# Altium footprint library steve.PcbLib: 16 footprints
Each footprint in its own frame and in the unit in brackets; x right, y up, seen from the top. Pads: shape width x height; smd on the part's side, far side on the other; paste and mask are expansions set on the pad; w line width, h text height; cw(c..) or ccw(c..) is an arc to the next point about the centre after c.
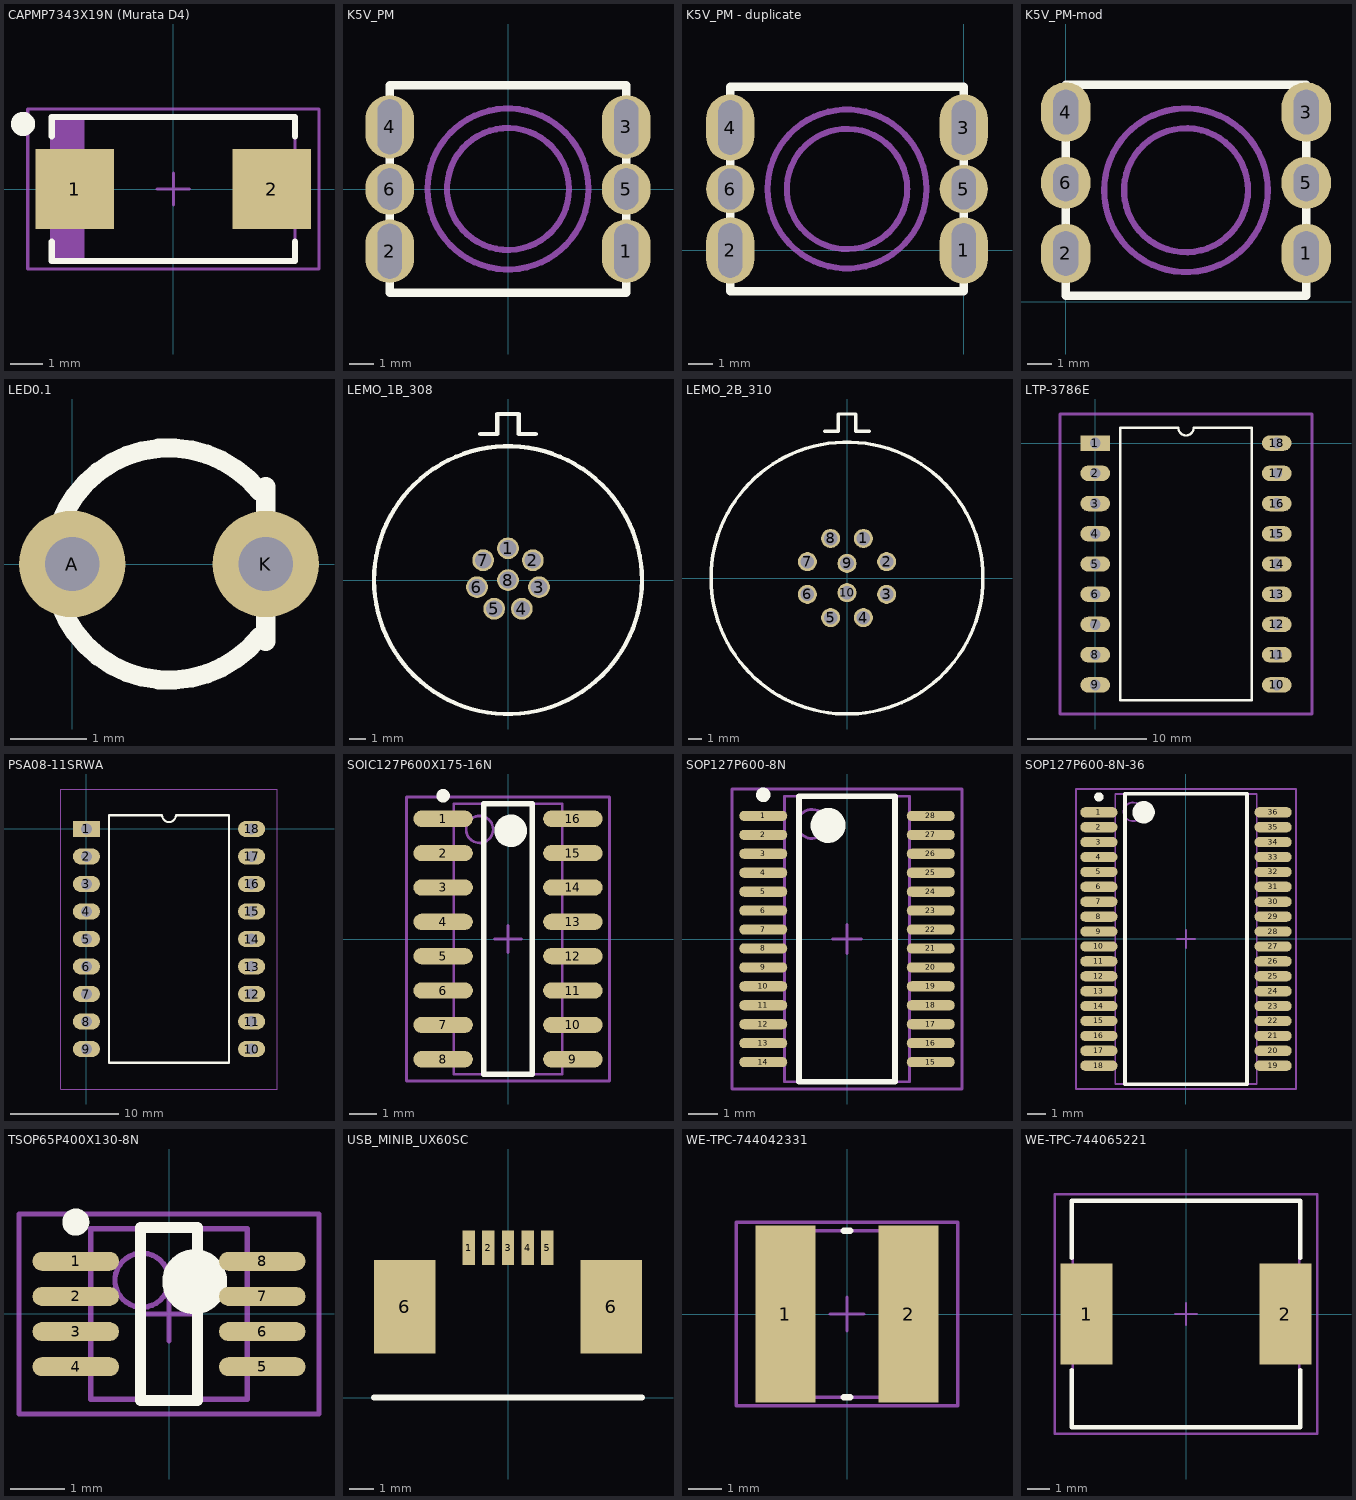
[diagram p0: the footprints below, top view; thin cyan lines are the x and y axes]

## CAPMP7343X19N (Murata D4) [mm] "Molded Capacitor, 2-Leads, Body 7.3x4.3mm, IPC Medium Density"
height 1.9
pads (2):
  rect 2.45x2.5 smd: 1(-3.075,0) 2(3.075,0)
Top Overlay:
  circle w0.5: c-4.697,2.032 r0.125
  lines w0.2: -3.8,-1.65 -3.8,-2.25 3.8,-2.25 3.8,-1.65 ; -3.8,1.65 -3.8,2.25 3.8,2.25 3.8,1.65
Mechanical 13:
  rectangle: -3.8,-2.25 -2.778,2.25
  lines w0.1: -3.8,-2.25 3.8,-2.25 3.8,2.25 -3.8,2.25 -3.8,-2.25
Mechanical 15:
  lines w0.1: -0.5,0 0.5,0 ; 0,-0.5 0,0.5 ; -4.55,-2.5 4.55,-2.5 4.55,2.5 -4.55,2.5 -4.55,-2.5
3D body: height 1.9, standoff 0, extent -3.8,-2.25 3.8,2.25

## K5V_PM [mm] "K5V Illuminated Tactile Switch - Panel Mount"
pads (6):
  oval 2x2.6 hole 1 slot 2.26 at 90 deg: 1(4.85,-2.55) 2(-4.85,-2.55) 3(4.85,2.55) 4(-4.85,2.55)
  oval 2x2.1 hole 1 slot 1.7 at 90 deg: 5(4.85,0) 6(-4.85,0)
Top Overlay:
  lines w0.35: -4.85,-4.25 -4.85,4.25 4.85,4.25 4.85,-4.25 -4.85,-4.25
Mechanical 1:
  circle w0.254: c0,0 r3.3
  circle w0.254: c0,0 r2.5
3D body: height 13.35, standoff 9.35, extent -2.512,-2.512 2.512,2.512
3D body: height 6.4, standoff 0, extent -4.849,-4.249 4.849,4.249
3D body: height 9.35, standoff 6.4, extent -3.31,-3.31 3.31,3.31

## K5V_PM - duplicate [mm] "K5V Illuminated Tactile Switch - Panel Mount"
pads (6):
  oval 2x2.76 hole 1 slot 2.26 at 90 deg: 1(0,0) 2(-9.7,0) 3(0,5.1) 4(-9.7,5.1)
  round 2 hole 1 slot 1.7 at 90 deg: 5(0,2.55) 6(-9.7,2.55)
Top Overlay:
  lines w0.35: -9.7,-1.7 0,-1.7 0,6.8 -9.7,6.8 -9.7,-1.7
Mechanical 1:
  circle w0.254: c-4.85,2.55 r2.5
  circle w0.254: c-4.85,2.55 r3.3
3D body: height 9.35, standoff 6.4, extent -8.16,-0.76 -1.54,5.86
3D body: height 6.4, standoff 0, extent -9.699,-1.699 -0.001,6.799
3D body: height 13.35, standoff 9.35, extent -7.362,0.038 -2.338,5.062

## K5V_PM-mod [mm] "K5V Illuminated Tactile Switch - Panel Mount"
pads (6):
  oval 2x2.4 hole 1 slot 1.8 at 90 deg: 1(9.699,1.953) 2(-0.001,1.953) 3(9.699,7.653) 4(-0.001,7.653)
  oval 2x2.1 hole 1 slot 1.5 at 90 deg: 5(9.699,4.803) 6(-0.001,4.803)
Top Overlay:
  lines w0.35: -0.001,0.253 9.699,0.253 9.699,8.753 -0.001,8.753 -0.001,0.253
Mechanical 1:
  circle w0.254: c4.849,4.503 r2.5
  circle w0.254: c4.849,4.503 r3.3
3D body: height 9.35, standoff 6.4, extent 1.54,1.194 8.159,7.813
3D body: height 6.4, standoff 0, extent 0,0.254 9.699,8.753
3D body: height 13.35, standoff 9.35, extent 2.338,1.992 7.361,7.015

## LED0.1 [mil]
pads (2):
  round 55 hole 28: A(0,0) K(100,0)
Top Overlay:
  lines w10: 96.85,-37.48 cw(c50,0) 96.85,37.48 ; 100,-40 100,40
3D body: height 364.17, standoff -905.51, extent -10.16,-77.86 128.42,79.48

## LEMO_1B_308 [mm]
pads (8):
  round 1.3 hole 1: 1(0,1.9) 2(1.485,1.185) 3(1.852,-0.423) 4(0.824,-1.712) 5(-0.824,-1.712) 6(-1.852,-0.423) 7(-1.485,1.185) 8(0,0)
Top Overlay:
  circle w0.254: c0,0 r8
  lines w0.254: -1.651,8.726 -0.635,8.726 -0.635,9.922 0.635,9.922 0.635,8.726 1.651,8.726
Bottom Overlay:
  circle w0.254: c0,0 r8
  lines w0.254: -1.651,8.735 -0.635,8.735 -0.635,9.922 0.635,9.922 0.635,8.723 1.651,8.723
3D body: height 21, standoff -2, extent -7.937,-7.937 7.937,7.937

## LEMO_2B_310 [mm]
pads (10):
  round 1.4 hole 1: 1(1.205,2.91) 2(2.91,1.205) 3(2.91,-1.205) 4(1.205,-2.91) 5(-1.205,-2.91) 6(-2.91,-1.205) 7(-2.91,1.205) 8(-1.205,2.91) 9(0,1.075) 10(0,-1.075)
Top Overlay:
  circle w0.254: c0,0 r10
  lines w0.254: -1.651,10.795 -0.635,10.795 -0.635,12.065 0.635,12.065 0.635,10.795 1.651,10.795
Bottom Overlay:
  circle w0.254: c0,0 r10
  lines w0.254: -1.651,10.795 -0.635,10.795 -0.635,12.065 0.635,12.065 0.635,10.795 1.651,10.795
3D body: height 21.5, standoff -3.3, extent -10,-9.921 10,9.922

## LTP-3786E [mm]
pads (18):
  rect 2.5x1.3 hole 0.9: 1(0,0)
  oval 2.5x1.3 hole 0.9: 2(0,-2.54) 3(0,-5.08) 4(0,-7.62) 5(0,-10.16) 6(0,-12.7) 7(0,-15.24) 8(0,-17.78) 9(0,-20.32) 10(15.24,-20.32) 11(15.24,-17.78) 12(15.24,-15.24) 13(15.24,-12.7) 14(15.24,-10.16) 15(15.24,-7.62) 16(15.24,-5.08) 17(15.24,-2.54) 18(15.24,0)
Top Overlay:
  lines w0.2: 2.085,-21.59 2.085,1.27 6.985,1.27 ccw(c7.62,1.27) 8.255,1.27 13.155,1.27 13.155,-21.59 2.085,-21.59
Mechanical 13:
  lines w0.254: -2.955,-22.76 18.195,-22.76 18.195,2.44 -2.955,2.44 -2.955,-22.76
3D body: height 8.03, standoff -3.97, extent -1.905,-22.86 17.145,-10.16
3D body: height 8.03, standoff -3.97, extent -1.905,-10.16 17.145,2.54

## PSA08-11SRWA [mm]
pads (18):
  rect 2.5x1.5 hole 1: 1(0,0)
  oval 2.5x1.5 hole 1: 2(0,-2.54) 3(0,-5.08) 4(0,-7.62) 5(0,-10.16) 6(0,-12.7) 7(0,-15.24) 8(0,-17.78) 9(0,-20.32) 10(15.24,-20.32) 11(15.24,-17.78) 12(15.24,-15.24) 13(15.24,-12.7) 14(15.24,-10.16) 15(15.24,-7.62) 16(15.24,-5.08) 17(15.24,-2.54) 18(15.24,0)
Top Overlay:
  lines w0.2: 2.085,-21.59 2.085,1.27 6.985,1.27 ccw(c7.62,1.27) 8.255,1.27 13.155,1.27 13.155,-21.59 2.085,-21.59
Mechanical 13:
  lines w0.1: -2.38,-24.01 17.62,-24.01 17.62,3.69 -2.38,3.69 -2.38,-24.01
3D body: height 8.5, standoff 0, extent -2.379,-24.009 17.619,3.689

## SOIC127P600X175-16N [mm] "SOIC, 16-Leads, Body 10.0x4.0mm (max), Pitch 1.27mm, IPC Medium Density"
height 1.75
pads (16):
  oval 2.2x0.6 smd: 1(-2.4,4.445) 2(-2.4,3.175) 3(-2.4,1.905) 4(-2.4,0.635) 5(-2.4,-0.635) 6(-2.4,-1.905) 7(-2.4,-3.175) 8(-2.4,-4.445) 9(2.4,-4.445) 10(2.4,-3.175) 11(2.4,-1.905) 12(2.4,-0.635) 13(2.4,0.635) 14(2.4,1.905) 15(2.4,3.175) 16(2.4,4.445)
Top Overlay:
  circle w0.6: c0.1,4 r0.3
  circle w0.25: c-2.4,5.295 r0.125
  lines w0.2: -0.9,-5 0.9,-5 0.9,5 -0.9,5 -0.9,-5
Mechanical 13:
  circle w0.1: c-1.05,4.05 r0.5
  lines w0.1: -2,-5 2,-5 2,5 -2,5 -2,-5
Mechanical 15:
  lines w0.1: -0.5,0 0.5,0 ; 0,-0.5 0,0.5 ; -3.75,-5.25 3.75,-5.25 3.75,5.25 -3.75,5.25 -3.75,-5.25
3D body: height 1.75, standoff 0.1, extent -2,-5 2,5

## SOP127P600-8N [mm] "Footprint for TLC59116"
height 1.2
pads (28):
  oval 1.65x0.35 smd: 1(-2.875,4.225) 2(-2.875,3.575) 3(-2.875,2.925) 4(-2.875,2.275) 5(-2.875,1.625) 6(-2.875,0.975) 7(-2.875,0.325) 8(-2.875,-0.325) 9(-2.875,-0.975) 10(-2.875,-1.625) 11(-2.875,-2.275) 12(-2.875,-2.925) 13(-2.875,-3.575) 14(-2.875,-4.225) 15(2.875,-4.225) 16(2.875,-3.575) 17(2.875,-2.925) 18(2.875,-2.275) 19(2.875,-1.625) 20(2.875,-0.975) 21(2.875,-0.325) 22(2.875,0.325) 23(2.875,0.975) 24(2.875,1.625) 25(2.875,2.275) 26(2.875,2.925) 27(2.875,3.575) 28(2.875,4.225)
Top Overlay:
  circle w0.6: c-0.65,3.9 r0.3
  circle w0.25: c-2.875,4.95 r0.125
  lines w0.2: -1.65,-4.9 1.65,-4.9 1.65,4.9 -1.65,4.9 -1.65,-4.9
Mechanical 13:
  circle w0.1: c-1.2,3.95 r0.5
  lines w0.1: -2.15,-4.9 2.15,-4.9 2.15,4.9 -2.15,4.9 -2.15,-4.9
Mechanical 15:
  lines w0.1: -0.5,0 0.5,0 ; 0,-0.5 0,0.5 ; -3.95,-5.15 3.95,-5.15 3.95,5.15 -3.95,5.15 -3.95,-5.15
3D body: height 1.2, standoff 0.15, extent -2.15,-4.9 2.15,4.9

## SOP127P600-8N-36 [mm] "Maxim 36L SSOP, 0.80mm pitch (for MAX6955)"
height 2.64
pads (36):
  oval 2x0.55 smd: 1(-4.675,6.8) 2(-4.675,6) 3(-4.675,5.2) 4(-4.675,4.4) 5(-4.675,3.6) 6(-4.675,2.8) 7(-4.675,2) 8(-4.675,1.2) 9(-4.675,0.4) 10(-4.675,-0.4) 11(-4.675,-1.2) 12(-4.675,-2) 13(-4.675,-2.8) 14(-4.675,-3.6) 15(-4.675,-4.4) 16(-4.675,-5.2) 17(-4.675,-6) 18(-4.675,-6.8) 19(4.675,-6.8) 20(4.675,-6) 21(4.675,-5.2) 22(4.675,-4.4) 23(4.675,-3.6) 24(4.675,-2.8) 25(4.675,-2) 26(4.675,-1.2) 27(4.675,-0.4) 28(4.675,0.4) 29(4.675,1.2) 30(4.675,2) 31(4.675,2.8) 32(4.675,3.6) 33(4.675,4.4) 34(4.675,5.2) 35(4.675,6) 36(4.675,6.8)
Top Overlay:
  circle w0.25: c-4.675,7.625 r0.125
  circle w0.6: c-2.275,6.8 r0.3
  lines w0.2: -3.275,-7.8 -3.275,7.8 3.275,7.8 3.275,-7.8 -3.275,-7.8
Mechanical 13:
  circle w0.1: c-2.85,6.825 r0.5
  lines w0.1: -3.8,-7.775 -3.8,7.775 3.8,7.775 3.8,-7.775 -3.8,-7.775
Mechanical 15:
  lines w0.1: -0.5,0 0.5,0 ; 0,-0.5 0,0.5 ; -5.9,-8.05 -5.9,8.05 5.9,8.05 5.9,-8.05 -5.9,-8.05
3D body: height 2.64, standoff 0.1, extent -3.8,-7.775 3.8,7.775

## TSOP65P400X130-8N [mm] "TSOP, 8-Leads, Body 3.2x2.9mm (max), Pitch 0.65mm, IPC Medium Density (TI - DCT)"
height 1.3
pads (8):
  oval 1.6x0.35 smd: 1(-1.725,0.975) 2(-1.725,0.325) 3(-1.725,-0.325) 4(-1.725,-0.975) 5(1.725,-0.975) 6(1.725,-0.325) 7(1.725,0.325) 8(1.725,0.975)
Top Overlay:
  circle w0.6: c0.475,0.6 r0.3
  circle w0.25: c-1.725,1.7 r0.125
  lines w0.2: -0.525,-1.6 0.525,-1.6 0.525,1.6 -0.525,1.6 -0.525,-1.6
Mechanical 13:
  circle w0.1: c-0.5,0.625 r0.5
  lines w0.1: -1.45,-1.575 1.45,-1.575 1.45,1.575 -1.45,1.575 -1.45,-1.575
Mechanical 15:
  lines w0.1: -0.5,0 0.5,0 ; 0,-0.5 0,0.5 ; -2.775,-1.85 2.775,-1.85 2.775,1.85 -2.775,1.85 -2.775,-1.85
3D body: height 1.3, standoff 0.1, extent -1.45,-1.575 1.45,1.575

## USB_MINIB_UX60SC [mm] "UX60SC-MB-5ST(80)"
pads (7):
  rect 0.5x1.4 smd mask+0: 1(-1.6,6.1) 2(-0.8,6.1) 3(0,6.1) 4(0.8,6.1) 5(1.6,6.1)
  rect 2.5x3.8 smd mask+0: 6(-4.2,3.7) 6(4.2,3.7)
Top Overlay:
  lines w0.254: -5.45,0 5.45,0
3D body: height 3.95, standoff 0, extent -4.917,-0.479 4.883,6.521

## WE-TPC-744042331 [mm] "WE-TPC SMD Shielded Tiny Power Inductor (744042331)"
height 2
pads (2):
  rect 1.8x5.3 smd: 1(-1.85,0) 2(1.85,0)
Top Overlay:
  lines w0.2: -0.1,-2.5 0.1,-2.5 ; -0.1,2.5 0.1,2.5
Mechanical 13:
  lines w0.1: -2.5,-2.5 2.5,-2.5 2.5,2.5 -2.5,2.5 -2.5,-2.5
Mechanical 15:
  lines w0.1: -0.5,0 0.5,0 ; 0,-0.5 0,0.5 ; -3.325,-2.75 3.325,-2.75 3.325,2.75 -3.325,2.75 -3.325,-2.75
3D body: height 2, standoff 0, extent -2.5,-2.5 2.5,2.5

## WE-TPC-744065221 [mm] "WE-TPC SMD Shielded Tiny Power Inductor (744065221)"
height 3.1
pads (2):
  rect 2.35x4.6 smd: 1(-4.525,0) 2(4.525,0)
Top Overlay:
  lines w0.2: -5.2,-2.55 -5.2,-5.15 5.2,-5.15 5.2,-2.55 ; -5.2,2.55 -5.2,5.15 5.2,5.15 5.2,2.55
Mechanical 13:
  lines w0.1: -5.15,-5.15 -5.15,5.15 5.15,5.15 5.15,-5.15 -5.15,-5.15
Mechanical 15:
  lines w0.1: -0.5,0 0.5,0 ; 0,-0.5 0,0.5 ; -5.975,-5.45 -5.975,5.45 5.975,5.45 5.975,-5.45 -5.975,-5.45
3D body: height 3.1, standoff 0, extent -5.15,-5.15 5.15,5.15